# EAGLE library part MAX16054 (library actuador)
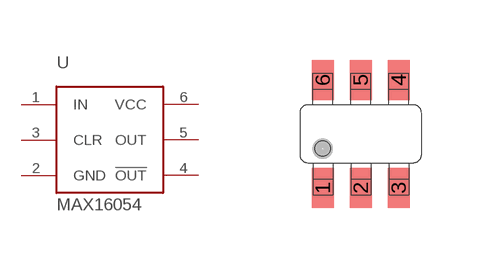
[diagram p4: symbol with the pads of SOT-23-6; footprint SOT-23-6]

Designator prefix -

## MAX16054  [SOT-23-6]
1  IN
2  GND
3  CLR
4  !OUT
5  OUT
6  VCC

## Footprint SOT-23-6 (pad centres in mm)
smd 0.55 x 1: 1 -0.95,-1.35; 2 0,-1.35; 3 0.95,-1.35; 4 0.95,1.35; 5 0,1.35; 6 -0.95,1.35